# Altium integrated library 1.5KEXX.IntLib: 1 symbol
Pins are listed as number, name and electrical type; pins without a type are passive.

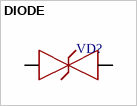
[diagram p0: symbol DIODE]

## DIODE
designator VD?
footprint DO201AB
pins: 1 C, 2 A